# Altium schematic symbol library Fuse.SchLib: 2 symbols
Pins are listed as number, name and electrical type; pins without a type are passive.

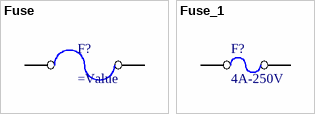
[diagram p0: symbols Fuse to Fuse_1]

## Fuse
designator F?
=Description
pins: 1, 2

## Fuse_1
designator F?, comment 4A-250V
=Description; Partnumber: LK_11803; Value: 4A-250V; Category: Fuse; Mounting type: Through Hole; Supplier: MINH HÀ; Detailed Value: 4A-250V
footprint FUSE_6X30MM
pins: 1, 2